# Altium footprint library EISI.PcbLib: 695 footprints (part 35 of 44)
Each footprint in its own frame and in the unit in brackets; x right, y up, seen from the top. Pads: shape width x height; smd on the part's side, far side on the other; paste and mask are expansions set on the pad; w line width, h text height; cw(c..) or ccw(c..) is an arc to the next point about the centre after c.
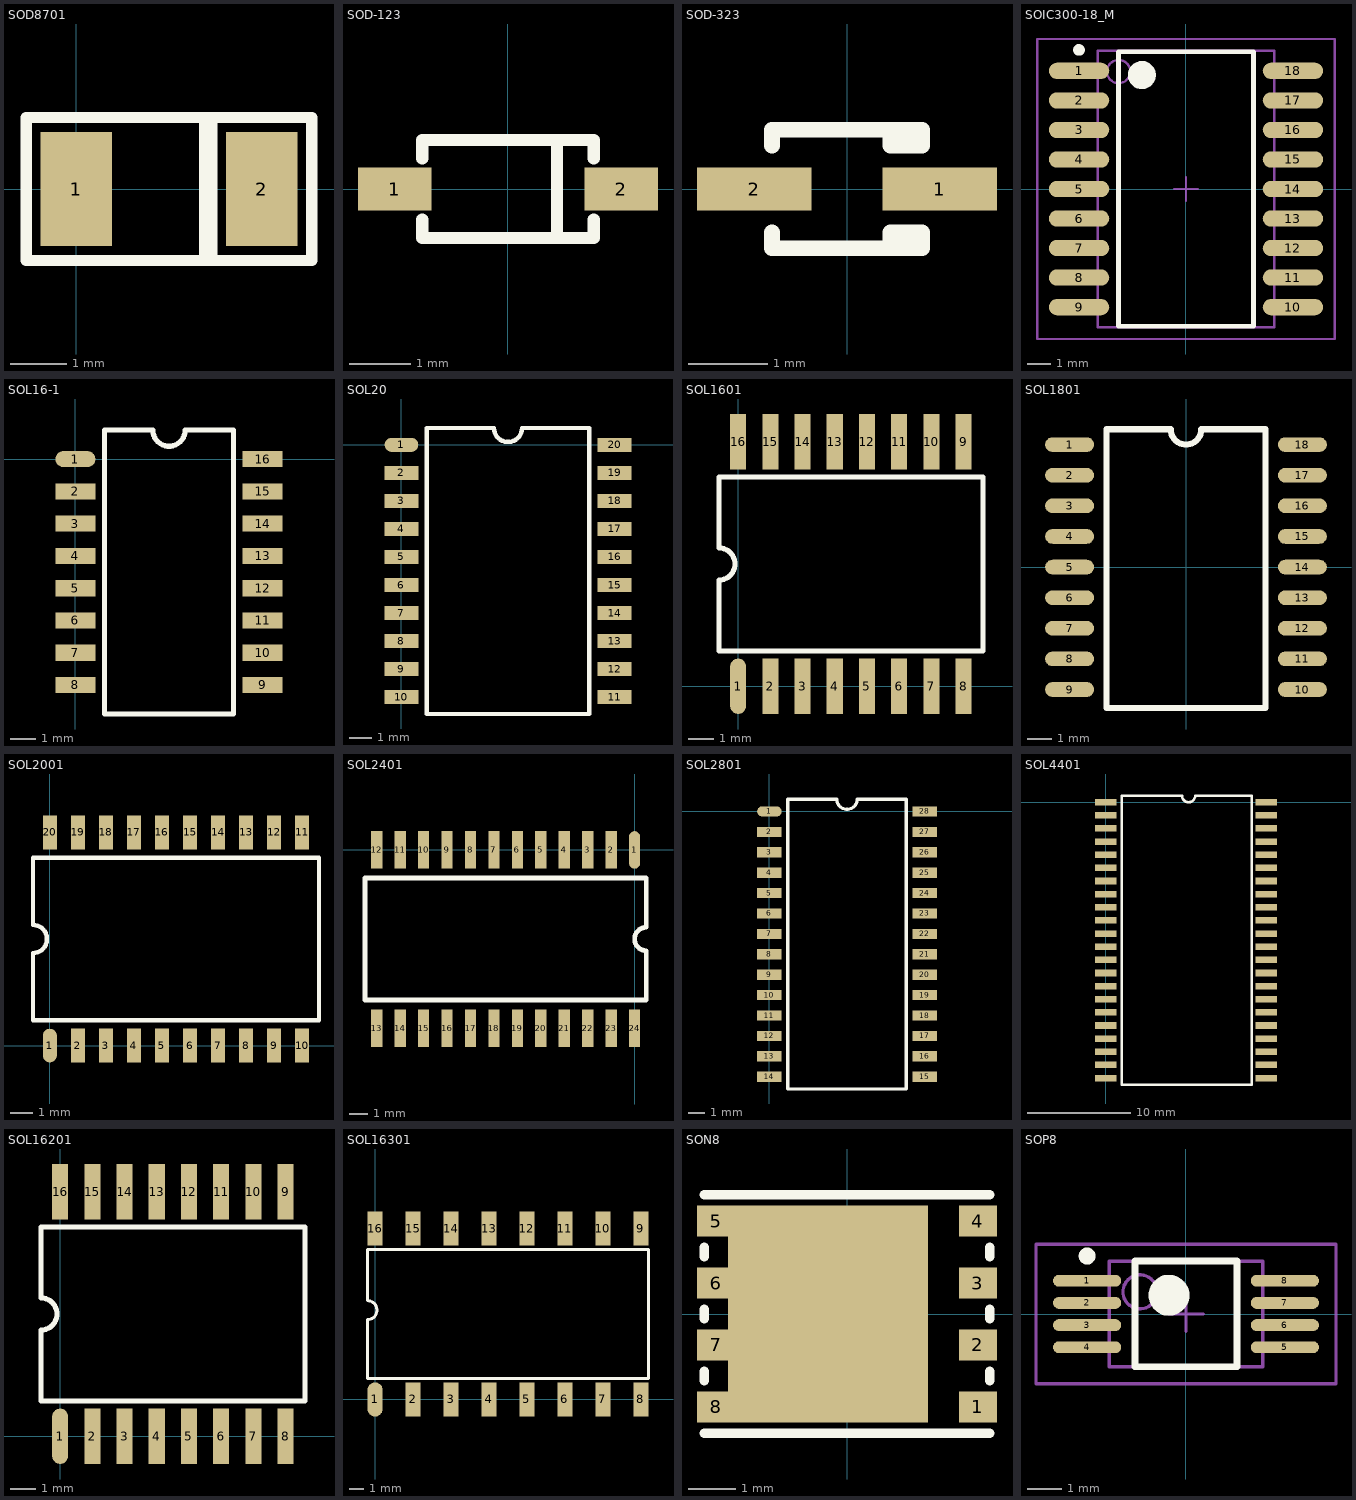
[diagram p34: the footprints below, top view; thin cyan lines are the x and y axes]

## SOD8701 [mil]
pads (2):
  rect 50x80 smd: 1(0,0) 2(130,0)
TopOverlay:
  lines w7.87: 90,-50 90,50 ; 95,-50 95,50 ; -35,-50 -35,50 100,50 165,50 165,-50 40,-50 -35,-50

## SOD-123 [mm]
height 1.35
pads (2):
  rect 1.2x0.7 smd: 1(-1.85,0) 2(1.85,0)
TopOverlay:
  lines w0.2: -1.4,-0.5 -1.4,-0.8 1.4,-0.8 1.4,-0.5 ; -1.4,0.5 -1.4,0.8 1.4,0.8 1.4,0.5 ; 0.8,-0.8 0.8,0.8

## SOD-323 [mm] "SOD-323/SC-76; 2 Leads; Body 1.7 x 1.3 mm, (LxW)"
height 1.1
pads (2):
  rect 1.45x0.55 smd: 1(1.175,0) 2(-1.175,0)
TopOverlay:
  lines w0.2: -0.95,-0.55 -0.95,-0.75 0.95,-0.75 0.95,-0.55 0.55,-0.55 0.55,-0.75 ; -0.95,0.55 -0.95,0.75 0.95,0.75 0.95,0.55 0.55,0.55 0.55,0.75

## SOIC300-18_M [mm] "18-Pin Small Outline Integrated Circuit 1.27 mm Pitch, IPC Low Density"
height 2.65
pads (18):
  oval 2.6x0.7 smd: 1(-4.6,5.08) 2(-4.6,3.81) 3(-4.6,2.54) 4(-4.6,1.27) 5(-4.6,0) 6(-4.6,-1.27) 7(-4.6,-2.54) 8(-4.6,-3.81) 9(-4.6,-5.08) 10(4.6,-5.08) 11(4.6,-3.81) 12(4.6,-2.54) 13(4.6,-1.27) 14(4.6,0) 15(4.6,1.27) 16(4.6,2.54) 17(4.6,3.81) 18(4.6,5.08)
TopOverlay:
  circle w0.25: c-4.6,5.98 r0.125
  circle w0.6: c-1.9,4.9 r0.3
  lines w0.2: -2.9,-5.9 -2.9,5.9 2.9,5.9 2.9,-5.9 -2.9,-5.9
Mechanical13:
  circle w0.1: c-2.9,5.05 r0.5
  lines w0.1: -3.8,-5.95 -3.8,5.95 3.8,5.95 3.8,-5.95 -3.8,-5.95
Mechanical15:
  lines w0.1: -0.5,0 0.5,0 ; 0,-0.5 0,0.5 ; -6.4,-6.45 -6.4,6.45 6.4,6.45 6.4,-6.45 -6.4,-6.45
3D body: height 2.65, standoff 0, extent -3.8,-5.95 3.8,5.95

## SOL16-1 [mil]
pads (16):
  oval 62x25 smd: 1(0,0)
  rect 62x25 smd: 2(0,-50) 3(0,-100) 4(0,-150) 5(0,-200) 6(0,-250) 7(0,-300) 8(0,-350) 9(290,-350) 10(290,-300) 11(290,-250) 12(290,-200) 13(290,-150) 14(290,-100) 15(290,-50) 16(290,0)
TopOverlay:
  lines w7.87: 120,45 45,45 45,20 45,-395 245,-395 245,45 170,45
  lines w8: 120,45 ccw(c145,45) 170,45

## SOL20 [mil]
pads (20):
  oval 60x25 smd: 1(0,0)
  rect 60x25 smd: 2(0,-50) 3(0,-100) 4(0,-150) 5(0,-200) 6(0,-250) 7(0,-300) 8(0,-350) 9(0,-400) 10(0,-450) 11(380,-450) 12(380,-400) 13(380,-350) 14(380,-300) 15(380,-250) 16(380,-200) 17(380,-150) 18(380,-100) 19(380,-50) 20(380,0)
TopOverlay:
  lines w7.87: 165,30 45,30 45,20 45,-480 335,-480 335,30 215,30
  lines w8: 165,30 ccw(c190,30) 215,30

## SOL1601 [mil]
pads (16):
  oval 25x86 smd: 1(0,0)
  rect 25x86 smd: 2(50,0) 3(100,0) 4(150,0) 5(200,0) 6(250,0) 7(300,0) 8(350,0) 9(350,380) 10(300,380) 11(250,380) 12(200,380) 13(150,380) 14(100,380) 15(50,380) 16(0,380)
TopOverlay:
  lines w7.87: -30,165 -30,55 -20,55 380,55 380,325 -30,325 -30,215
  lines w8: -30,165 ccw(c-30,190) -30,215

## SOL1801 [mil]
pads (18):
  oval 80x24 smd: 1(-190,200) 2(-190,150) 3(-190,100) 4(-190,50) 5(-190,0) 6(-190,-50) 7(-190,-100) 8(-190,-150) 9(-190,-200) 10(190,-200) 11(190,-150) 12(190,-100) 13(190,-50) 14(190,0) 15(190,50) 16(190,100) 17(190,150) 18(190,200)
TopOverlay:
  lines w10: -130,-230 -130,225 -25,225 ccw(c0,225) 25,225 130,225 130,-230 -130,-230

## SOL2001 [mil]
pads (20):
  oval 25x60 smd: 1(0,0)
  rect 25x60 smd: 2(50,0) 3(100,0) 4(150,0) 5(200,0) 6(250,0) 7(300,0) 8(350,0) 9(400,0) 10(450,0) 11(450,380) 12(400,380) 13(350,380) 14(300,380) 15(250,380) 16(200,380) 17(150,380) 18(100,380) 19(50,380) 20(0,380)
TopOverlay:
  lines w7.87: -30,165 -30,45 -20,45 480,45 480,335 -30,335 -30,215
  lines w8: -30,165 ccw(c-30,190) -30,215

## SOL2401 [mil]
pads (24):
  oval 24x80 smd: 1(0,0)
  rect 24x80 smd: 2(-50,0) 3(-100,0) 4(-150,0) 5(-200,0) 6(-250,0) 7(-300,0) 8(-350,0) 9(-400,0) 10(-450,0) 11(-500,0) 12(-550,0) 13(-550,-380) 14(-500,-380) 15(-450,-380) 16(-400,-380) 17(-350,-380) 18(-300,-380) 19(-250,-380) 20(-200,-380) 21(-150,-380) 22(-100,-380) 23(-50,-380) 24(0,-380)
TopOverlay:
  lines w10: -575,-320 25,-320 25,-215 cw(c25,-190) 25,-165 25,-60 -575,-60 -575,-320

## SOL2801 [mil]
pads (28):
  oval 60x25 smd: 1(0,0)
  rect 60x25 smd: 2(0,-50) 3(0,-100) 4(0,-150) 5(0,-200) 6(0,-250) 7(0,-300) 8(0,-350) 9(0,-400) 10(0,-450) 11(0,-500) 12(0,-550) 13(0,-600) 14(0,-650) 15(380,-650) 16(380,-600) 17(380,-550) 18(380,-500) 19(380,-450) 20(380,-400) 21(380,-350) 22(380,-300) 23(380,-250) 24(380,-200) 25(380,-150) 26(380,-100) 27(380,-50) 28(380,0)
TopOverlay:
  lines w7.87: 165,30 45,30 45,20 45,-680 335,-680 335,30 215,30
  lines w8: 165,30 ccw(c190,30) 215,30

## SOL4401 [mil]
pads (44):
  rect 83x25 smd: 1(0,0) 2(0,-50) 3(0,-100) 4(0,-150) 5(0,-200) 6(0,-250) 7(0,-300) 8(0,-350) 9(0,-400) 10(0,-450) 11(0,-500) 12(0,-550) 13(0,-600) 14(0,-650) 15(0,-700) 16(0,-750) 17(0,-800) 18(0,-850) 19(0,-900) 20(0,-950) 21(0,-1000) 22(0,-1050) 23(610,-1050) 24(610,-1000) 25(610,-950) 26(610,-900) 27(610,-850) 28(610,-800) 29(610,-750) 30(610,-700) 31(610,-650) 32(610,-600) 33(610,-550) 34(610,-500) 35(610,-450) 36(610,-400) 37(610,-350) 38(610,-300) 39(610,-250) 40(610,-200) 41(610,-150) 42(610,-100) 43(610,-50) 44(610,0)
TopOverlay:
  lines w10: 60,-1075 555,-1075 555,25 340,25 cw(c315,25) 290,25 60,25 60,-1075

## SOL16201 [mil]
pads (16):
  oval 25x86 smd: 1(0,0)
  rect 25x86 smd: 2(50,0) 3(100,0) 4(150,0) 5(200,0) 6(250,0) 7(300,0) 8(350,0) 9(350,380) 10(300,380) 11(250,380) 12(200,380) 13(150,380) 14(100,380) 15(50,380) 16(0,380)
TopOverlay:
  lines w7.87: -30,165 -30,55 -20,55 380,55 380,325 -30,325 -30,215
  lines w8: -30,165 ccw(c-30,190) -30,215

## SOL16301 [mm]
pads (16):
  oval 1.02x2.29 smd: 1(0,0)
  rect 1.02x2.29 smd: 2(2.54,0) 3(5.08,0) 4(7.62,0) 5(10.16,0) 6(12.7,0) 7(15.24,0) 8(17.78,0) 9(17.78,11.43) 10(15.24,11.43) 11(12.7,11.43) 12(10.16,11.43) 13(7.62,11.43) 14(5.08,11.43) 15(2.54,11.43) 16(0,11.43)
TopOverlay:
  lines w0.2: -0.508,5.334 -0.508,1.397 18.288,1.397 18.288,10.033 -0.508,10.033 -0.508,6.604
  lines w0.203: -0.508,5.334 ccw(c-0.508,5.969) -0.508,6.604

## SON8 [mm] "SON 5-mm × 6-mm Plastic Package (Q5A)"
height 1
pads (9):
  rect 0.8x0.65 smd: 1(2.75,-1.95) 2(2.75,-0.65) 3(2.75,0.65) 4(2.75,1.95) 5(-2.75,1.95) 6(-2.75,0.65) 7(-2.75,-0.65) 8(-2.75,-1.95)
  rect 4.2x4.55 smd: ""(-0.4,0)
TopOverlay:
  lines w0.2: -3,-2.5 3,-2.5 ; -3,-1.4 -3,-1.2 ; -3,-0.1 -3,0.1 ; -3,1.2 -3,1.4 ; -3,2.5 3,2.5 ; 3,-1.4 3,-1.2 ; 3,-0.1 3,0.1 ; 3,1.2 3,1.4

## SOP8 [mm] "SOP, 8-Leads, Body 3x4.4mm, Pitch 0.65mm, IPC Low Density"
height 2
pads (8):
  oval 2x0.35 smd: 1(-2.9,0.975) 2(-2.9,0.325) 3(-2.9,-0.325) 4(-2.9,-0.975) 5(2.9,-0.975) 6(2.9,-0.325) 7(2.9,0.325) 8(2.9,0.975)
TopOverlay:
  circle w0.6: c-0.5,0.55 r0.3
  circle w0.25: c-2.9,1.7 r0.125
  lines w0.2: -1.5,-1.55 1.5,-1.55 1.5,1.55 -1.5,1.55 -1.5,-1.55
Mechanical13:
  circle w0.1: c-1.35,0.65 r0.5
  lines w0.1: -2.25,-1.55 2.25,-1.55 2.25,1.55 -2.25,1.55 -2.25,-1.55
Mechanical15:
  lines w0.1: -0.5,0 0.5,0 ; 0,-0.5 0,0.5 ; -4.4,-2.05 4.4,-2.05 4.4,2.05 -4.4,2.05 -4.4,-2.05
3D body: height 2, standoff 0, extent -2.25,-1.55 2.25,1.55